# Altium schematic symbol library SN74LVC125A.SchLib: 1 symbol
Pins are listed as number, name and electrical type; pins without a type are passive.

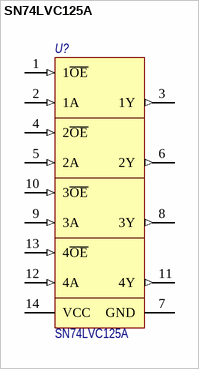
[diagram p0: symbol SN74LVC125A]

## SN74LVC125A
designator U?
Quadruple Bus Buffer Gate With 3-State Outputs; Потребление, Вт: 0,1; Назначение: Quadruple Bus Buffer Gate With 3-State Outputs; ComponentLink1Description: DataSheet; ComponentLink1URL: https://www.ti.com/lit/ds/scas290q/scas290q.pdf; Наименование: SN74LVC125A
footprint SOIC-14
footprint TSSOP-14
pins: 1 1~{OE} (in) "No Connect.", 2 1A (in) "No Connect.", 3 1Y (out) "No Connect.", 4 2~{OE} (in) "No Connect.", 5 2A (in) "No Connect.", 6 2Y (out) "No Connect.", 7 GND (power) "No Connect.", 8 3Y (out) "No Connect.", 9 3A (in) "No Connect.", 10 3~{OE} (in) "No Connect.", 11 4Y (out) "No Connect.", 12 4A (in) "No Connect.", 13 4~{OE} (in) "No Connect.", 14 VCC (power) "No Connect."